# Altium schematic symbol library main.SchLib: 7 symbols
Pins are listed as number, name and electrical type; pins without a type are passive.

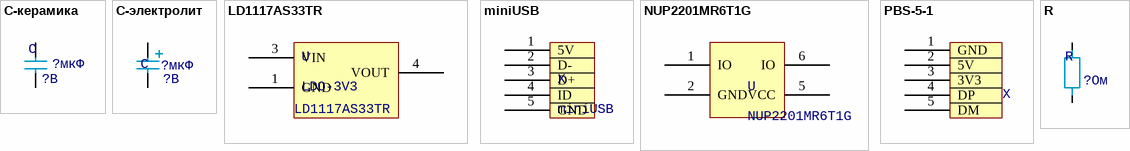
[diagram p0: symbols C-керамика to R]

## C-керамика
designator C  Capacity: ?мкФ  Voltage: ?В  (hidden comment: *)
Керамический конденсатор
footprint CAPC2012-0805 (Chip Capacitor, 2-Leads, Body 2.0x1.3mm, IPC Medium Density)
pins: 1, 2

## C-электролит
designator C  Capacity: ?мкФ  Voltage: ?В  (hidden comment: *)
footprint CAPPR500-820X1100 - duplicate (Шаг 5 мм. Диаметр - 8.2. Высота - 11.)
pins: 1, 2

## LD1117AS33TR
designator U, comment LDO-3V3
Voltage regulator, 3v3
footprint SOT-223 (SOT223, 4-Leads, Body 6,50x7,00mm (avg), Pitch 2,30mm, IPC Low Density)
pins: 1 GND, 3 VIN, 4 VOUT

## miniUSB
designator X
footprint USB/SM0.8-6H5 (Connector; USB2.0, Type B, SM; 5 Position; Right Angle)
pins: 1 5V, 2 D-, 3 D+, 4 ID, 5 GND

## NUP2201MR6T1G
designator U
footprint SOT-23-6 (SOT23, 6-Leads, Body 2,90x2,80mm, Pitch 0,95mm, IPC Medium Density)
pins: 1 IO, 2 GND, 5 VCC, 6 IO

## PBS-5-1
designator X  (value not drawn)
footprint PBS_5-1
pins: 1 GND, 2 5V, 3 3V3, 4 DP, 5 DM

## R
designator R  Resistance: ?Ом  (hidden comment: *)
Резистор
footprint CR2012-0805
pins: 1, 2